# EAGLE library part USBUF01W6 (library barthess)
USB upstream EMI/ESD protection
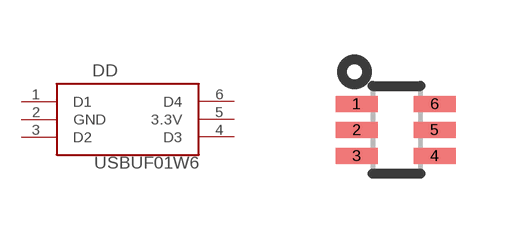
[diagram p19: symbol with the pads of SOTT323-6L; footprint SOTT323-6L]

Designator prefix DD

## USBUF01W6  [SOTT323-6L]
1  D1
2  GND  pwr
3  D2
4  D3
5  3.3V  pwr
6  D4

## Footprint SOTT323-6L (pad centres in mm)
smd 1.05 x 0.4: 1 -1,0.65; 2 -1,0; 3 -1,-0.65; 4 0.95,-0.65; 5 0.95,0; 6 0.95,0.65